# Altium integrated library Altium_WCAP-CSMH (rev20a).IntLib: 102 symbols (part 2 of 2)
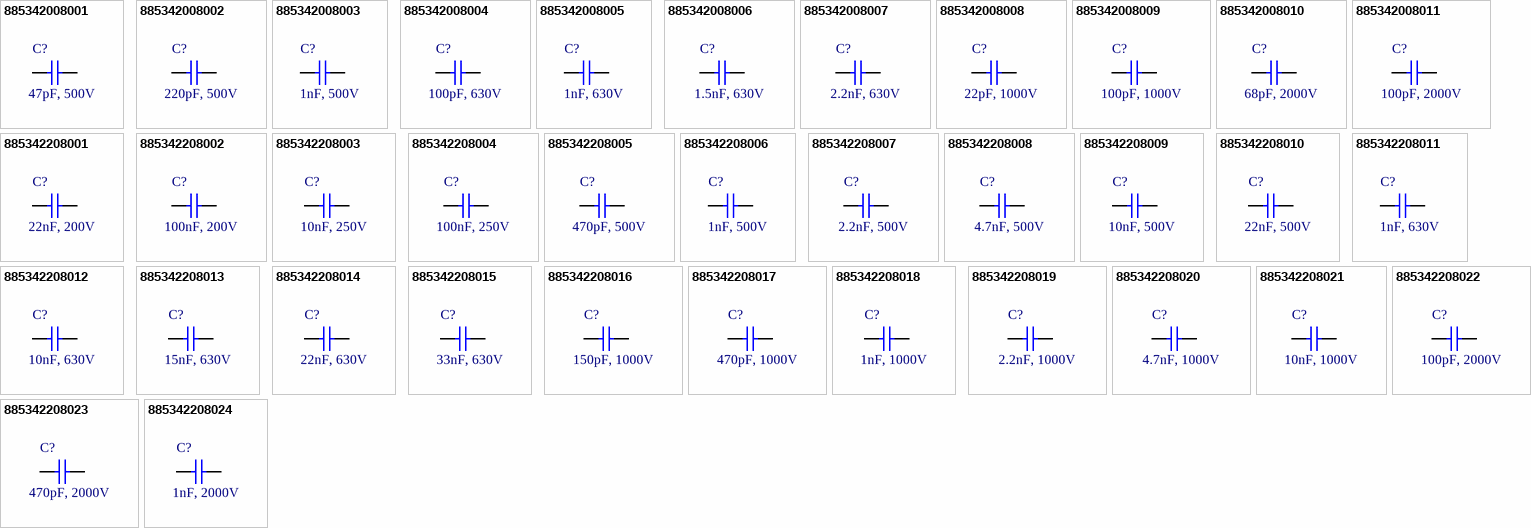
[diagram p6: symbols 885342008001 to 885342208024]

## 885342208017
designator C?, comment 470pF, 1000V
WCAP-CSMH Multilayer Ceramic Chip Capacitor, size 1206, X7R Class II, 470pF, 1000V; Manufacturer Part Number: 885342208017; Manufacturer: Wurth Elektronik; Rated Voltage: 1000VDC; Insulation Resistance: 10GOhm; Dissipation Factor: 2.5%; Capacitance Tolerance: +/-10%; Technical Reference: X7R1206471KA00DFCT10000; ComponentLink1Description: Manufacturer; ComponentLink1URL: http://www.we-online.de; ComponentLink2Description: Datasheet; ComponentLink2URL: https://www.we-online.com/catalog/datasheet/885342208017.pdf; Mounting Technology: SMT; Operating Temperature: -55 to +125degC; Published Date: May 2020; Packaging: Tape and Reel; Ceramic Type: X7R Class II; Capacitance: 470pF; Height: 1.25mm; Size: 1206
footprint WCAP-CSMH_1206_H1.25
pins: 1, 2

## 885342208018
designator C?, comment 1nF, 1000V
WCAP-CSMH Multilayer Ceramic Chip Capacitor, size 1206, X7R Class II, 1nF, 1000V; Manufacturer Part Number: 885342208018; Manufacturer: Wurth Elektronik; Rated Voltage: 1000VDC; Insulation Resistance: 10GOhm; Dissipation Factor: 2.5%; Capacitance Tolerance: +/-10%; Technical Reference: X7R1206102KA00DFCT10000; ComponentLink1Description: Manufacturer; ComponentLink1URL: http://www.we-online.de; ComponentLink2Description: Datasheet; ComponentLink2URL: https://www.we-online.com/catalog/datasheet/885342208018.pdf; Mounting Technology: SMT; Operating Temperature: -55 to +125degC; Published Date: May 2020; Packaging: Tape and Reel; Ceramic Type: X7R Class II; Capacitance: 1nF; Height: 1.25mm; Size: 1206
footprint WCAP-CSMH_1206_H1.25
pins: 1, 2

## 885342208019
designator C?, comment 2.2nF, 1000V
WCAP-CSMH Multilayer Ceramic Chip Capacitor, size 1206, X7R Class II, 2.2nF, 1000V; Manufacturer Part Number: 885342208019; Manufacturer: Wurth Elektronik; Rated Voltage: 1000VDC; Insulation Resistance: 10GOhm; Dissipation Factor: 2.5%; Capacitance Tolerance: +/-10%; Technical Reference: X7R1206222KA00DFCT10000; ComponentLink1Description: Manufacturer; ComponentLink1URL: http://www.we-online.de; ComponentLink2Description: Datasheet; ComponentLink2URL: https://www.we-online.com/catalog/datasheet/885342208019.pdf; Mounting Technology: SMT; Operating Temperature: -55 to +125degC; Published Date: May 2020; Packaging: Tape and Reel; Ceramic Type: X7R Class II; Capacitance: 2.2nF; Height: 1.25mm; Size: 1206
footprint WCAP-CSMH_1206_H1.25
pins: 1, 2

## 885342208020
designator C?, comment 4.7nF, 1000V
WCAP-CSMH Multilayer Ceramic Chip Capacitor, size 1206, X7R Class II, 4.7nF, 1000V; Manufacturer Part Number: 885342208020; Manufacturer: Wurth Elektronik; Rated Voltage: 1000VDC; Insulation Resistance: 10GOhm; Dissipation Factor: 2.5%; Capacitance Tolerance: +/-10%; Technical Reference: X7R1206472KA00DFCT10000; ComponentLink1Description: Manufacturer; ComponentLink1URL: http://www.we-online.de; ComponentLink2Description: Datasheet; ComponentLink2URL: https://www.we-online.com/catalog/datasheet/885342208020.pdf; Mounting Technology: SMT; Operating Temperature: -55 to +125degC; Published Date: May 2020; Packaging: Tape and Reel; Ceramic Type: X7R Class II; Capacitance: 4.7nF; Height: 1.25mm; Size: 1206
footprint WCAP-CSMH_1206_H1.25
pins: 1, 2

## 885342208021
designator C?, comment 10nF, 1000V
WCAP-CSMH Multilayer Ceramic Chip Capacitor, size 1206, X7R Class II, 10nF, 1000V; Manufacturer Part Number: 885342208021; Manufacturer: Wurth Elektronik; Rated Voltage: 1000VDC; Insulation Resistance: 10GOhm; Dissipation Factor: 2.5%; Capacitance Tolerance: +/-10%; Technical Reference: X7R1206103KA00DFCT10000; ComponentLink1Description: Manufacturer; ComponentLink1URL: http://www.we-online.de; ComponentLink2Description: Datasheet; ComponentLink2URL: https://www.we-online.com/catalog/datasheet/885342208021.pdf; Mounting Technology: SMT; Operating Temperature: -55 to +125degC; Published Date: May 2020; Packaging: Tape and Reel; Ceramic Type: X7R Class II; Capacitance: 10nF; Height: 1.25mm; Size: 1206
footprint WCAP-CSMH_1206_H1.25
pins: 1, 2

## 885342208022
designator C?, comment 100pF, 2000V
WCAP-CSMH Multilayer Ceramic Chip Capacitor, size 1206, X7R Class II, 100pF, 2000V; Manufacturer Part Number: 885342208022; Manufacturer: Wurth Elektronik; Rated Voltage: 2000VDC; Insulation Resistance: 10GOhm; Dissipation Factor: 2.5%; Capacitance Tolerance: +/-10%; Technical Reference: X7R1206101KB00DFCT10000; ComponentLink1Description: Manufacturer; ComponentLink1URL: http://www.we-online.de; ComponentLink2Description: Datasheet; ComponentLink2URL: https://www.we-online.com/catalog/datasheet/885342208022.pdf; Mounting Technology: SMT; Operating Temperature: -55 to +125degC; Published Date: May 2020; Packaging: Tape and Reel; Ceramic Type: X7R Class II; Capacitance: 100pF; Height: 1.25mm; Size: 1206
footprint WCAP-CSMH_1206_H1.25
pins: 1, 2

## 885342208023
designator C?, comment 470pF, 2000V
WCAP-CSMH Multilayer Ceramic Chip Capacitor, size 1206, X7R Class II, 470pF, 2000V; Manufacturer Part Number: 885342208023; Manufacturer: Wurth Elektronik; Rated Voltage: 2000VDC; Insulation Resistance: 10GOhm; Dissipation Factor: 2.5%; Capacitance Tolerance: +/-10%; Technical Reference: X7R1206471KB00DFCT10000; ComponentLink1Description: Manufacturer; ComponentLink1URL: http://www.we-online.de; ComponentLink2Description: Datasheet; ComponentLink2URL: https://www.we-online.com/catalog/datasheet/885342208023.pdf; Mounting Technology: SMT; Operating Temperature: -55 to +125degC; Published Date: May 2020; Packaging: Tape and Reel; Ceramic Type: X7R Class II; Capacitance: 470pF; Height: 1.25mm; Size: 1206
footprint WCAP-CSMH_1206_H1.25
pins: 1, 2

## 885342208024
designator C?, comment 1nF, 2000V
WCAP-CSMH Multilayer Ceramic Chip Capacitor, size 1206, X7R Class II, 1nF, 2000V; Manufacturer Part Number: 885342208024; Manufacturer: Wurth Elektronik; Rated Voltage: 2000VDC; Insulation Resistance: 10GOhm; Dissipation Factor: 2.5%; Capacitance Tolerance: +/-10%; Technical Reference: X7R1206102KB00DFCT10000; ComponentLink1Description: Manufacturer; ComponentLink1URL: http://www.we-online.de; ComponentLink2Description: Datasheet; ComponentLink2URL: https://www.we-online.com/catalog/datasheet/885342208024.pdf; Mounting Technology: SMT; Operating Temperature: -55 to +125degC; Published Date: May 2020; Packaging: Tape and Reel; Ceramic Type: X7R Class II; Capacitance: 1nF; Height: 1.6mm; Size: 1206
footprint WCAP-CSMH_1206_H1.6
pins: 1, 2


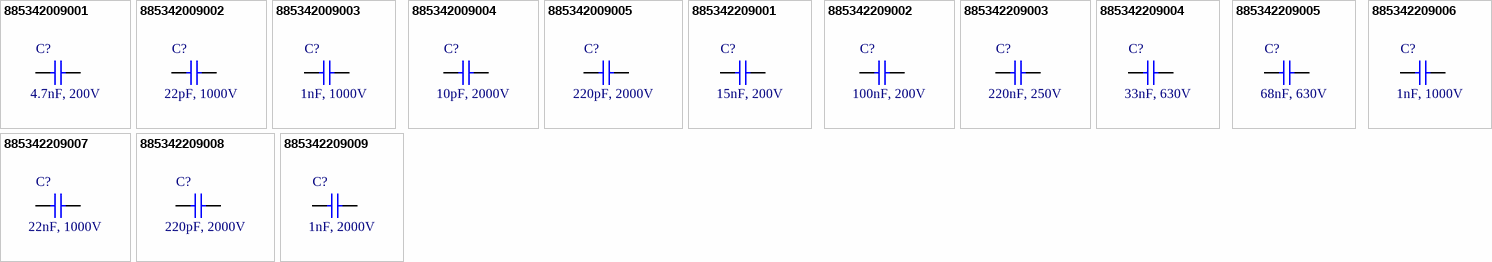
[diagram p3: symbols 885342009001 to 885342209009]

## 885342009001
designator C?, comment 4.7nF, 200V
WCAP-CSMH Multilayer Ceramic Chip Capacitor, size 1210, NP0 Class I, 4.7nF, 200V; Manufacturer Part Number: 885342009001; Manufacturer: Wurth Elektronik; Rated Voltage: 200VDC; Insulation Resistance: 10GOhm; Capacitance Tolerance: +/-5%; Technical Reference: NP01210472J200DFCT10000; ComponentLink1Description: Manufacturer; ComponentLink1URL: http://www.we-online.de; ComponentLink2Description: Datasheet; ComponentLink2URL: https://www.we-online.com/catalog/datasheet/885342009001.pdf; Mounting Technology: SMT; Operating Temperature: -55 to +125degC; Published Date: May 2020; Packaging: Tape and Reel; Ceramic Type: NP0 Class I; Capacitance: 4.7nF; Dissipation Factor: -; Height: 1.6mm; Size: 1210
footprint WCAP-CSMH_1210_H1.6
pins: 1, 2

## 885342009002
designator C?, comment 22pF, 1000V
WCAP-CSMH Multilayer Ceramic Chip Capacitor, size 1210, NP0 Class I, 22pF, 1000V; Manufacturer Part Number: 885342009002; Manufacturer: Wurth Elektronik; Rated Voltage: 1000VDC; Insulation Resistance: 10GOhm; Capacitance Tolerance: +/-5%; Technical Reference: NP01210220JA00DFCT10000; ComponentLink1Description: Manufacturer; ComponentLink1URL: http://www.we-online.de; ComponentLink2Description: Datasheet; ComponentLink2URL: https://www.we-online.com/catalog/datasheet/885342009002.pdf; Mounting Technology: SMT; Operating Temperature: -55 to +125degC; Published Date: May 2020; Packaging: Tape and Reel; Ceramic Type: NP0 Class I; Capacitance: 22pF; Dissipation Factor: -; Height: 0.95mm; Size: 1210
footprint WCAP-CSMH_1210_H0.95
pins: 1, 2

## 885342009003
designator C?, comment 1nF, 1000V
WCAP-CSMH Multilayer Ceramic Chip Capacitor, size 1210, NP0 Class I, 1nF, 1000V; Manufacturer Part Number: 885342009003; Manufacturer: Wurth Elektronik; Rated Voltage: 1000VDC; Insulation Resistance: 10GOhm; Capacitance Tolerance: +/-5%; Technical Reference: NP01210102JA00DFCT10000; ComponentLink1Description: Manufacturer; ComponentLink1URL: http://www.we-online.de; ComponentLink2Description: Datasheet; ComponentLink2URL: https://www.we-online.com/catalog/datasheet/885342009003.pdf; Mounting Technology: SMT; Operating Temperature: -55 to +125degC; Published Date: May 2020; Packaging: Tape and Reel; Ceramic Type: NP0 Class I; Capacitance: 1nF; Dissipation Factor: -; Height: 1.6mm; Size: 1210
footprint WCAP-CSMH_1210_H1.6
pins: 1, 2

## 885342009004
designator C?, comment 10pF, 2000V
WCAP-CSMH Multilayer Ceramic Chip Capacitor, size 1210, NP0 Class I, 10pF, 2000V; Manufacturer Part Number: 885342009004; Manufacturer: Wurth Elektronik; Rated Voltage: 2000VDC; Insulation Resistance: 10GOhm; Capacitance Tolerance: +/-5%; Technical Reference: NP01210100JB00DFCT10000; ComponentLink1Description: Manufacturer; ComponentLink1URL: http://www.we-online.de; ComponentLink2Description: Datasheet; ComponentLink2URL: https://www.we-online.com/catalog/datasheet/885342009004.pdf; Mounting Technology: SMT; Operating Temperature: -55 to +125degC; Published Date: May 2020; Packaging: Tape and Reel; Ceramic Type: NP0 Class I; Capacitance: 10pF; Dissipation Factor: -; Height: 0.95mm; Size: 1210
footprint WCAP-CSMH_1210_H0.95
pins: 1, 2

## 885342009005
designator C?, comment 220pF, 2000V
WCAP-CSMH Multilayer Ceramic Chip Capacitor, size 1210, NP0 Class I, 220pF, 2000V; Manufacturer Part Number: 885342009005; Manufacturer: Wurth Elektronik; Rated Voltage: 2000VDC; Insulation Resistance: 10GOhm; Capacitance Tolerance: +/-5%; Technical Reference: NP01210221JB00DFCT10000; ComponentLink1Description: Manufacturer; ComponentLink1URL: http://www.we-online.de; ComponentLink2Description: Datasheet; ComponentLink2URL: https://www.we-online.com/catalog/datasheet/885342009005.pdf; Mounting Technology: SMT; Operating Temperature: -55 to +125degC; Published Date: May 2020; Packaging: Tape and Reel; Ceramic Type: NP0 Class I; Capacitance: 220pF; Dissipation Factor: -; Height: 1.6mm; Size: 1210
footprint WCAP-CSMH_1210_H1.6
pins: 1, 2

## 885342209001
designator C?, comment 15nF, 200V
WCAP-CSMH Multilayer Ceramic Chip Capacitor, size 1210, X7R Class II, 15nF, 200V; Manufacturer Part Number: 885342209001; Manufacturer: Wurth Elektronik; Rated Voltage: 200VDC; Insulation Resistance: 6.667GOhm; Dissipation Factor: 2.5%; Capacitance Tolerance: +/-10%; Technical Reference: X7R1210153K200DFCT10000; ComponentLink1Description: Manufacturer; ComponentLink1URL: http://www.we-online.de; ComponentLink2Description: Datasheet; ComponentLink2URL: https://www.we-online.com/catalog/datasheet/885342209001.pdf; Mounting Technology: SMT; Operating Temperature: -55 to +125degC; Published Date: May 2020; Packaging: Tape and Reel; Ceramic Type: X7R Class II; Capacitance: 15nF; Height: 0.95mm; Size: 1210
footprint WCAP-CSMH_1210_H0.95
pins: 1, 2

## 885342209002
designator C?, comment 100nF, 200V
WCAP-CSMH Multilayer Ceramic Chip Capacitor, size 1210, X7R Class II, 100nF, 200V; Manufacturer Part Number: 885342209002; Manufacturer: Wurth Elektronik; Rated Voltage: 200VDC; Insulation Resistance: 1GOhm; Dissipation Factor: 2.5%; Capacitance Tolerance: +/-10%; Technical Reference: X7R1210104K200DFCT10000; ComponentLink1Description: Manufacturer; ComponentLink1URL: http://www.we-online.de; ComponentLink2Description: Datasheet; ComponentLink2URL: https://www.we-online.com/catalog/datasheet/885342209002.pdf; Mounting Technology: SMT; Operating Temperature: -55 to +125degC; Published Date: May 2020; Packaging: Tape and Reel; Ceramic Type: X7R Class II; Capacitance: 100nF; Height: 1.6mm; Size: 1210
footprint WCAP-CSMH_1210_H1.6
pins: 1, 2

## 885342209003
designator C?, comment 220nF, 250V
WCAP-CSMH Multilayer Ceramic Chip Capacitor, size 1210, X7R Class II, 220nF, 250V; Manufacturer Part Number: 885342209003; Manufacturer: Wurth Elektronik; Rated Voltage: 250VDC; Insulation Resistance: 0.455GOhm; Dissipation Factor: 2.5%; Capacitance Tolerance: +/-10%; Technical Reference: X7R1210224K250DFCT10000; ComponentLink1Description: Manufacturer; ComponentLink1URL: http://www.we-online.de; ComponentLink2Description: Datasheet; ComponentLink2URL: https://www.we-online.com/catalog/datasheet/885342209003.pdf; Mounting Technology: SMT; Operating Temperature: -55 to +125degC; Published Date: May 2020; Packaging: Tape and Reel; Ceramic Type: X7R Class II; Capacitance: 220nF; Height: 2.5mm; Size: 1210
footprint WCAP-CSMH_1210_H2.5
pins: 1, 2

## 885342209004
designator C?, comment 33nF, 630V
WCAP-CSMH Multilayer Ceramic Chip Capacitor, size 1210, X7R Class II, 33nF, 630V; Manufacturer Part Number: 885342209004; Manufacturer: Wurth Elektronik; Rated Voltage: 630VDC; Insulation Resistance: 3.03GOhm; Dissipation Factor: 2.5%; Capacitance Tolerance: +/-10%; Technical Reference: X7R1210333K630DFCT10000; ComponentLink1Description: Manufacturer; ComponentLink1URL: http://www.we-online.de; ComponentLink2Description: Datasheet; ComponentLink2URL: https://www.we-online.com/catalog/datasheet/885342209004.pdf; Mounting Technology: SMT; Operating Temperature: -55 to +125degC; Published Date: May 2020; Packaging: Tape and Reel; Ceramic Type: X7R Class II; Capacitance: 33nF; Height: 1.6mm; Size: 1210
footprint WCAP-CSMH_1210_H1.6
pins: 1, 2

## 885342209005
designator C?, comment 68nF, 630V
WCAP-CSMH Multilayer Ceramic Chip Capacitor, size 1210, X7R Class II, 68nF, 630V; Manufacturer Part Number: 885342209005; Manufacturer: Wurth Elektronik; Rated Voltage: 630VDC; Insulation Resistance: 1.471GOhm; Dissipation Factor: 2.5%; Capacitance Tolerance: +/-10%; Technical Reference: X7R1210683K630DFCT10000; ComponentLink1Description: Manufacturer; ComponentLink1URL: http://www.we-online.de; ComponentLink2Description: Datasheet; ComponentLink2URL: https://www.we-online.com/catalog/datasheet/885342209005.pdf; Mounting Technology: SMT; Operating Temperature: -55 to +125degC; Published Date: May 2020; Packaging: Tape and Reel; Ceramic Type: X7R Class II; Capacitance: 68nF; Height: 2mm; Size: 1210
footprint WCAP-CSMH_1210_H2
pins: 1, 2

## 885342209006
designator C?, comment 1nF, 1000V
WCAP-CSMH Multilayer Ceramic Chip Capacitor, size 1210, X7R Class II, 1nF, 1000V; Manufacturer Part Number: 885342209006; Manufacturer: Wurth Elektronik; Rated Voltage: 1000VDC; Insulation Resistance: 10GOhm; Dissipation Factor: 2.5%; Capacitance Tolerance: +/-10%; Technical Reference: X7R1210102KA00DFCT10000; ComponentLink1Description: Manufacturer; ComponentLink1URL: http://www.we-online.de; ComponentLink2Description: Datasheet; ComponentLink2URL: https://www.we-online.com/catalog/datasheet/885342209006.pdf; Mounting Technology: SMT; Operating Temperature: -55 to +125degC; Published Date: May 2020; Packaging: Tape and Reel; Ceramic Type: X7R Class II; Capacitance: 1nF; Height: 1.25mm; Size: 1210
footprint WCAP-CSMH_1210_H1.25
pins: 1, 2

## 885342209007
designator C?, comment 22nF, 1000V
WCAP-CSMH Multilayer Ceramic Chip Capacitor, size 1210, X7R Class II, 22nF, 1000V; Manufacturer Part Number: 885342209007; Manufacturer: Wurth Elektronik; Rated Voltage: 1000VDC; Insulation Resistance: 4.55GOhm; Dissipation Factor: 2.5%; Capacitance Tolerance: +/-10%; Technical Reference: X7R1210223KA00DFCT10000; ComponentLink1Description: Manufacturer; ComponentLink1URL: http://www.we-online.de; ComponentLink2Description: Datasheet; ComponentLink2URL: https://www.we-online.com/catalog/datasheet/885342209007.pdf; Mounting Technology: SMT; Operating Temperature: -55 to +125degC; Published Date: May 2020; Packaging: Tape and Reel; Ceramic Type: X7R Class II; Capacitance: 22nF; Height: 1.6mm; Size: 1210
footprint WCAP-CSMH_1210_H1.6
pins: 1, 2

## 885342209008
designator C?, comment 220pF, 2000V
WCAP-CSMH Multilayer Ceramic Chip Capacitor, size 1210, X7R Class II, 220pF, 2000V; Manufacturer Part Number: 885342209008; Manufacturer: Wurth Elektronik; Rated Voltage: 2000VDC; Insulation Resistance: 10GOhm; Dissipation Factor: 2.5%; Capacitance Tolerance: +/-10%; Technical Reference: X7R1210221KB00DFCT10000; ComponentLink1Description: Manufacturer; ComponentLink1URL: http://www.we-online.de; ComponentLink2Description: Datasheet; ComponentLink2URL: https://www.we-online.com/catalog/datasheet/885342209008.pdf; Mounting Technology: SMT; Operating Temperature: -55 to +125degC; Published Date: May 2020; Packaging: Tape and Reel; Ceramic Type: X7R Class II; Capacitance: 220pF; Height: 1.25mm; Size: 1210
footprint WCAP-CSMH_1210_H1.25
pins: 1, 2

## 885342209009
designator C?, comment 1nF, 2000V
WCAP-CSMH Multilayer Ceramic Chip Capacitor, size 1210, X7R Class II, 1nF, 2000V; Manufacturer Part Number: 885342209009; Manufacturer: Wurth Elektronik; Rated Voltage: 2000VDC; Insulation Resistance: 10GOhm; Dissipation Factor: 2.5%; Capacitance Tolerance: +/-10%; Technical Reference: X7R1210102KB00DFCT10000; ComponentLink1Description: Manufacturer; ComponentLink1URL: http://www.we-online.de; ComponentLink2Description: Datasheet; ComponentLink2URL: https://www.we-online.com/catalog/datasheet/885342209009.pdf; Mounting Technology: SMT; Operating Temperature: -55 to +125degC; Published Date: May 2020; Packaging: Tape and Reel; Ceramic Type: X7R Class II; Capacitance: 1nF; Height: 1.25mm; Size: 1210
footprint WCAP-CSMH_1210_H1.25
pins: 1, 2


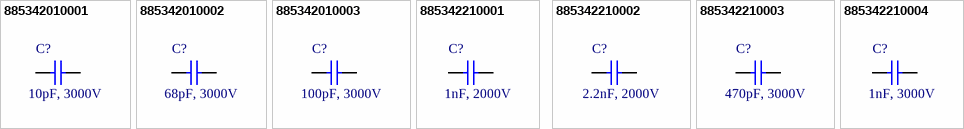
[diagram p4: symbols 885342010001 to 885342210004]

## 885342010001
designator C?, comment 10pF, 3000V
WCAP-CSMH Multilayer Ceramic Chip Capacitor, size 1808, NP0 Class I, 10pF, 3000V; Manufacturer Part Number: 885342010001; Manufacturer: Wurth Elektronik; Rated Voltage: 3000VDC; Insulation Resistance: 10GOhm; Capacitance Tolerance: +/-5%; Technical Reference: NP01808100JC00DFCT10000; ComponentLink1Description: Manufacturer; ComponentLink1URL: http://www.we-online.de; ComponentLink2Description: Datasheet; ComponentLink2URL: https://www.we-online.com/catalog/datasheet/885342010001.pdf; Mounting Technology: SMT; Operating Temperature: -55 to +125degC; Published Date: May 2020; Packaging: Tape and Reel; Ceramic Type: NP0 Class I; Capacitance: 10pF; Dissipation Factor: -; Height: 1.25mm; Size: 1808
footprint WCAP-CSMH_1808_H1.25
pins: 1, 2

## 885342010002
designator C?, comment 68pF, 3000V
WCAP-CSMH Multilayer Ceramic Chip Capacitor, size 1808, NP0 Class I, 68pF, 3000V; Manufacturer Part Number: 885342010002; Manufacturer: Wurth Elektronik; Rated Voltage: 3000VDC; Insulation Resistance: 10GOhm; Capacitance Tolerance: +/-5%; Technical Reference: NP01808680JC00DFCT10000; ComponentLink1Description: Manufacturer; ComponentLink1URL: http://www.we-online.de; ComponentLink2Description: Datasheet; ComponentLink2URL: https://www.we-online.com/catalog/datasheet/885342010002.pdf; Mounting Technology: SMT; Operating Temperature: -55 to +125degC; Published Date: May 2020; Packaging: Tape and Reel; Ceramic Type: NP0 Class I; Capacitance: 68pF; Dissipation Factor: -; Height: 1.25mm; Size: 1808
footprint WCAP-CSMH_1808_H1.25
pins: 1, 2

## 885342010003
designator C?, comment 100pF, 3000V
WCAP-CSMH Multilayer Ceramic Chip Capacitor, size 1808, NP0 Class I, 100pF, 3000V; Manufacturer Part Number: 885342010003; Manufacturer: Wurth Elektronik; Rated Voltage: 3000VDC; Insulation Resistance: 10GOhm; Capacitance Tolerance: +/-5%; Technical Reference: NP01808101JC00DFCT10000; ComponentLink1Description: Manufacturer; ComponentLink1URL: http://www.we-online.de; ComponentLink2Description: Datasheet; ComponentLink2URL: https://www.we-online.com/catalog/datasheet/885342010003.pdf; Mounting Technology: SMT; Operating Temperature: -55 to +125degC; Published Date: May 2020; Packaging: Tape and Reel; Ceramic Type: NP0 Class I; Capacitance: 100pF; Dissipation Factor: -; Height: 2mm; Size: 1808
footprint WCAP-CSMH_1808_H2
pins: 1, 2

## 885342210001
designator C?, comment 1nF, 2000V
WCAP-CSMH Multilayer Ceramic Chip Capacitor, size 1808, X7R Class II, 1nF, 2000V; Manufacturer Part Number: 885342210001; Manufacturer: Wurth Elektronik; Rated Voltage: 2000VDC; Insulation Resistance: 10GOhm; Dissipation Factor: 2.5%; Capacitance Tolerance: +/-10%; Technical Reference: X7R1808102KB00DFCT10000; ComponentLink1Description: Manufacturer; ComponentLink1URL: http://www.we-online.de; ComponentLink2Description: Datasheet; ComponentLink2URL: https://www.we-online.com/catalog/datasheet/885342210001.pdf; Mounting Technology: SMT; Operating Temperature: -55 to +125degC; Published Date: May 2020; Packaging: Tape and Reel; Ceramic Type: X7R Class II; Capacitance: 1nF; Height: 1.25mm; Size: 1808
footprint WCAP-CSMH_1808_H1.25
pins: 1, 2

## 885342210002
designator C?, comment 2.2nF, 2000V
WCAP-CSMH Multilayer Ceramic Chip Capacitor, size 1808, X7R Class II, 2.2nF, 2000V; Manufacturer Part Number: 885342210002; Manufacturer: Wurth Elektronik; Rated Voltage: 2000VDC; Insulation Resistance: 10GOhm; Dissipation Factor: 2.5%; Capacitance Tolerance: +/-10%; Technical Reference: X7R1808222KB00DFCT10000; ComponentLink1Description: Manufacturer; ComponentLink1URL: http://www.we-online.de; ComponentLink2Description: Datasheet; ComponentLink2URL: https://www.we-online.com/catalog/datasheet/885342210002.pdf; Mounting Technology: SMT; Operating Temperature: -55 to +125degC; Published Date: May 2020; Packaging: Tape and Reel; Ceramic Type: X7R Class II; Capacitance: 2.2nF; Height: 2mm; Size: 1808
footprint WCAP-CSMH_1808_H2
pins: 1, 2

## 885342210003
designator C?, comment 470pF, 3000V
WCAP-CSMH Multilayer Ceramic Chip Capacitor, size 1808, X7R Class II, 470pF, 3000V; Manufacturer Part Number: 885342210003; Manufacturer: Wurth Elektronik; Rated Voltage: 3000VDC; Insulation Resistance: 10GOhm; Dissipation Factor: 2.5%; Capacitance Tolerance: +/-10%; Technical Reference: X7R1808471KC00DFCT10000; ComponentLink1Description: Manufacturer; ComponentLink1URL: http://www.we-online.de; ComponentLink2Description: Datasheet; ComponentLink2URL: https://www.we-online.com/catalog/datasheet/885342210003.pdf; Mounting Technology: SMT; Operating Temperature: -55 to +125degC; Published Date: May 2020; Packaging: Tape and Reel; Ceramic Type: X7R Class II; Capacitance: 470pF; Height: 2mm; Size: 1808
footprint WCAP-CSMH_1808_H2
pins: 1, 2

## 885342210004
designator C?, comment 1nF, 3000V
WCAP-CSMH Multilayer Ceramic Chip Capacitor, size 1808, X7R Class II, 1nF, 3000V; Manufacturer Part Number: 885342210004; Manufacturer: Wurth Elektronik; Rated Voltage: 3000VDC; Insulation Resistance: 10GOhm; Dissipation Factor: 2.5%; Capacitance Tolerance: +/-10%; Technical Reference: X7R1808102KC00DFCT10000; ComponentLink1Description: Manufacturer; ComponentLink1URL: http://www.we-online.de; ComponentLink2Description: Datasheet; ComponentLink2URL: https://www.we-online.com/catalog/datasheet/885342210004.pdf; Mounting Technology: SMT; Operating Temperature: -55 to +125degC; Published Date: May 2020; Packaging: Tape and Reel; Ceramic Type: X7R Class II; Capacitance: 1nF; Height: 2mm; Size: 1808
footprint WCAP-CSMH_1808_H2
pins: 1, 2


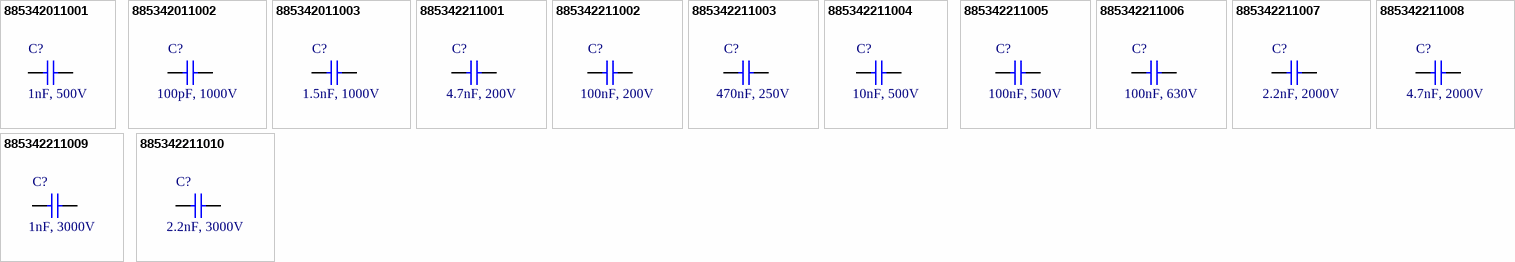
[diagram p5: symbols 885342011001 to 885342211010]

## 885342011001
designator C?, comment 1nF, 500V
WCAP-CSMH Multilayer Ceramic Chip Capacitor, size 1812, NP0 Class I, 1nF, 500V; Manufacturer Part Number: 885342011001; Manufacturer: Wurth Elektronik; Rated Voltage: 500VDC; Insulation Resistance: 10GOhm; Capacitance Tolerance: +/-5%; Technical Reference: NP01812102J500DFCT10000; ComponentLink1Description: Manufacturer; ComponentLink1URL: http://www.we-online.de; ComponentLink2Description: Datasheet; ComponentLink2URL: https://www.we-online.com/catalog/datasheet/885342011001.pdf; Mounting Technology: SMT; Operating Temperature: -55 to +125degC; Published Date: May 2020; Packaging: Tape and Reel; Ceramic Type: NP0 Class I; Capacitance: 1nF; Dissipation Factor: -; Height: 1.25mm; Size: 1812
footprint WCAP-CSMH_1812_H1.25
pins: 1, 2

## 885342011002
designator C?, comment 100pF, 1000V
WCAP-CSMH Multilayer Ceramic Chip Capacitor, size 1812, NP0 Class I, 100pF, 1000V; Manufacturer Part Number: 885342011002; Manufacturer: Wurth Elektronik; Rated Voltage: 1000VDC; Insulation Resistance: 10GOhm; Capacitance Tolerance: +/-5%; Technical Reference: NP01812101JA00DFCT10000; ComponentLink1Description: Manufacturer; ComponentLink1URL: http://www.we-online.de; ComponentLink2Description: Datasheet; ComponentLink2URL: https://www.we-online.com/catalog/datasheet/885342011002.pdf; Mounting Technology: SMT; Operating Temperature: -55 to +125degC; Published Date: May 2020; Packaging: Tape and Reel; Ceramic Type: NP0 Class I; Capacitance: 100pF; Dissipation Factor: -; Height: 1.25mm; Size: 1812
footprint WCAP-CSMH_1812_H1.25
pins: 1, 2

## 885342011003
designator C?, comment 1.5nF, 1000V
WCAP-CSMH Multilayer Ceramic Chip Capacitor, size 1812, NP0 Class I, 1.5nF, 1000V; Manufacturer Part Number: 885342011003; Manufacturer: Wurth Elektronik; Rated Voltage: 1000VDC; Insulation Resistance: 10GOhm; Capacitance Tolerance: +/-5%; Technical Reference: NP01812152JA00DFCT10000; ComponentLink1Description: Manufacturer; ComponentLink1URL: http://www.we-online.de; ComponentLink2Description: Datasheet; ComponentLink2URL: https://www.we-online.com/catalog/datasheet/885342011003.pdf; Mounting Technology: SMT; Operating Temperature: -55 to +125degC; Published Date: May 2020; Packaging: Tape and Reel; Ceramic Type: NP0 Class I; Capacitance: 1.5nF; Dissipation Factor: -; Height: 2mm; Size: 1812
footprint WCAP-CSMH_1812_H2
pins: 1, 2

## 885342211001
designator C?, comment 4.7nF, 200V
WCAP-CSMH Multilayer Ceramic Chip Capacitor, size 1812, X7R Class II, 4.7nF, 200V; Manufacturer Part Number: 885342211001; Manufacturer: Wurth Elektronik; Rated Voltage: 200VDC; Insulation Resistance: 10GOhm; Dissipation Factor: 2.5%; Capacitance Tolerance: +/-10%; Technical Reference: X7R1812472K200DFCT10000; ComponentLink1Description: Manufacturer; ComponentLink1URL: http://www.we-online.de; ComponentLink2Description: Datasheet; ComponentLink2URL: https://www.we-online.com/catalog/datasheet/885342211001.pdf; Mounting Technology: SMT; Operating Temperature: -55 to +125degC; Published Date: May 2020; Packaging: Tape and Reel; Ceramic Type: X7R Class II; Capacitance: 4.7nF; Height: 1.25mm; Size: 1812
footprint WCAP-CSMH_1812_H1.25
pins: 1, 2

## 885342211002
designator C?, comment 100nF, 200V
WCAP-CSMH Multilayer Ceramic Chip Capacitor, size 1812, X7R Class II, 100nF, 200V; Manufacturer Part Number: 885342211002; Manufacturer: Wurth Elektronik; Rated Voltage: 200VDC; Insulation Resistance: 1GOhm; Dissipation Factor: 2.5%; Capacitance Tolerance: +/-10%; Technical Reference: X7R1812104K200DFCT10000; ComponentLink1Description: Manufacturer; ComponentLink1URL: http://www.we-online.de; ComponentLink2Description: Datasheet; ComponentLink2URL: https://www.we-online.com/catalog/datasheet/885342211002.pdf; Mounting Technology: SMT; Operating Temperature: -55 to +125degC; Published Date: May 2020; Packaging: Tape and Reel; Ceramic Type: X7R Class II; Capacitance: 100nF; Height: 1.25mm; Size: 1812
footprint WCAP-CSMH_1812_H1.25
pins: 1, 2

## 885342211003
designator C?, comment 470nF, 250V
WCAP-CSMH Multilayer Ceramic Chip Capacitor, size 1812, X7R Class II, 470nF, 250V; Manufacturer Part Number: 885342211003; Manufacturer: Wurth Elektronik; Rated Voltage: 250VDC; Insulation Resistance: 0.213GOhm; Dissipation Factor: 2.5%; Capacitance Tolerance: +/-10%; Technical Reference: X7R1812474K250DFCT10000; ComponentLink1Description: Manufacturer; ComponentLink1URL: http://www.we-online.de; ComponentLink2Description: Datasheet; ComponentLink2URL: https://www.we-online.com/catalog/datasheet/885342211003.pdf; Mounting Technology: SMT; Operating Temperature: -55 to +125degC; Published Date: May 2020; Packaging: Tape and Reel; Ceramic Type: X7R Class II; Capacitance: 470nF; Height: 2.5mm; Size: 1812
footprint WCAP-CSMH_1812_H2.5
pins: 1, 2

## 885342211004
designator C?, comment 10nF, 500V
WCAP-CSMH Multilayer Ceramic Chip Capacitor, size 1812, X7R Class II, 10nF, 500V; Manufacturer Part Number: 885342211004; Manufacturer: Wurth Elektronik; Rated Voltage: 500VDC; Insulation Resistance: 10GOhm; Dissipation Factor: 2.5%; Capacitance Tolerance: +/-10%; Technical Reference: X7R1812103K500DFCT10000; ComponentLink1Description: Manufacturer; ComponentLink1URL: http://www.we-online.de; ComponentLink2Description: Datasheet; ComponentLink2URL: https://www.we-online.com/catalog/datasheet/885342211004.pdf; Mounting Technology: SMT; Operating Temperature: -55 to +125degC; Published Date: May 2020; Packaging: Tape and Reel; Ceramic Type: X7R Class II; Capacitance: 10nF; Height: 1.25mm; Size: 1812
footprint WCAP-CSMH_1812_H1.25
pins: 1, 2

## 885342211005
designator C?, comment 100nF, 500V
WCAP-CSMH Multilayer Ceramic Chip Capacitor, size 1812, X7R Class II, 100nF, 500V; Manufacturer Part Number: 885342211005; Manufacturer: Wurth Elektronik; Rated Voltage: 500VDC; Insulation Resistance: 1GOhm; Dissipation Factor: 2.5%; Capacitance Tolerance: +/-10%; Technical Reference: X7R1812104K500DFCT10000; ComponentLink1Description: Manufacturer; ComponentLink1URL: http://www.we-online.de; ComponentLink2Description: Datasheet; ComponentLink2URL: https://www.we-online.com/catalog/datasheet/885342211005.pdf; Mounting Technology: SMT; Operating Temperature: -55 to +125degC; Published Date: May 2020; Packaging: Tape and Reel; Ceramic Type: X7R Class II; Capacitance: 100nF; Height: 2mm; Size: 1812
footprint WCAP-CSMH_1812_H2
pins: 1, 2

## 885342211006
designator C?, comment 100nF, 630V
WCAP-CSMH Multilayer Ceramic Chip Capacitor, size 1812, X7R Class II, 100nF, 630V; Manufacturer Part Number: 885342211006; Manufacturer: Wurth Elektronik; Rated Voltage: 630VDC; Insulation Resistance: 1GOhm; Dissipation Factor: 2.5%; Capacitance Tolerance: +/-10%; Technical Reference: X7R1812104K630DFCT10000; ComponentLink1Description: Manufacturer; ComponentLink1URL: http://www.we-online.de; ComponentLink2Description: Datasheet; ComponentLink2URL: https://www.we-online.com/catalog/datasheet/885342211006.pdf; Mounting Technology: SMT; Operating Temperature: -55 to +125degC; Published Date: May 2020; Packaging: Tape and Reel; Ceramic Type: X7R Class II; Capacitance: 100nF; Height: 2mm; Size: 1812
footprint WCAP-CSMH_1812_H2
pins: 1, 2

## 885342211007
designator C?, comment 2.2nF, 2000V
WCAP-CSMH Multilayer Ceramic Chip Capacitor, size 1812, X7R Class II, 2.2nF, 2000V; Manufacturer Part Number: 885342211007; Manufacturer: Wurth Elektronik; Rated Voltage: 2000VDC; Insulation Resistance: 10GOhm; Dissipation Factor: 2.5%; Capacitance Tolerance: +/-10%; Technical Reference: X7R1812222KB00DFCT10000; ComponentLink1Description: Manufacturer; ComponentLink1URL: http://www.we-online.de; ComponentLink2Description: Datasheet; ComponentLink2URL: https://www.we-online.com/catalog/datasheet/885342211007.pdf; Mounting Technology: SMT; Operating Temperature: -55 to +125degC; Published Date: May 2020; Packaging: Tape and Reel; Ceramic Type: X7R Class II; Capacitance: 2.2nF; Height: 1.6mm; Size: 1812
footprint WCAP-CSMH_1812_H1.6
pins: 1, 2

## 885342211008
designator C?, comment 4.7nF, 2000V
WCAP-CSMH Multilayer Ceramic Chip Capacitor, size 1812, X7R Class II, 4.7nF, 2000V; Manufacturer Part Number: 885342211008; Manufacturer: Wurth Elektronik; Rated Voltage: 2000VDC; Insulation Resistance: 10GOhm; Dissipation Factor: 2.5%; Capacitance Tolerance: +/-10%; Technical Reference: X7R1812472KB00DFCT10000; ComponentLink1Description: Manufacturer; ComponentLink1URL: http://www.we-online.de; ComponentLink2Description: Datasheet; ComponentLink2URL: https://www.we-online.com/catalog/datasheet/885342211008.pdf; Mounting Technology: SMT; Operating Temperature: -55 to +125degC; Published Date: May 2020; Packaging: Tape and Reel; Ceramic Type: X7R Class II; Capacitance: 4.7nF; Height: 2mm; Size: 1812
footprint WCAP-CSMH_1812_H2
pins: 1, 2

## 885342211009
designator C?, comment 1nF, 3000V
WCAP-CSMH Multilayer Ceramic Chip Capacitor, size 1812, X7R Class II, 1nF, 3000V; Manufacturer Part Number: 885342211009; Manufacturer: Wurth Elektronik; Rated Voltage: 3000VDC; Insulation Resistance: 10GOhm; Dissipation Factor: 2.5%; Capacitance Tolerance: +/-10%; Technical Reference: X7R1812102KC00DFCT10000; ComponentLink1Description: Manufacturer; ComponentLink1URL: http://www.we-online.de; ComponentLink2Description: Datasheet; ComponentLink2URL: https://www.we-online.com/catalog/datasheet/885342211009.pdf; Mounting Technology: SMT; Operating Temperature: -55 to +125degC; Published Date: May 2020; Packaging: Tape and Reel; Ceramic Type: X7R Class II; Capacitance: 1nF; Height: 2mm; Size: 1812
footprint WCAP-CSMH_1812_H2
pins: 1, 2

## 885342211010
designator C?, comment 2.2nF, 3000V
WCAP-CSMH Multilayer Ceramic Chip Capacitor, size 1812, X7R Class II, 2.2nF, 3000V; Manufacturer Part Number: 885342211010; Manufacturer: Wurth Elektronik; Rated Voltage: 3000VDC; Insulation Resistance: 10GOhm; Dissipation Factor: 2.5%; Capacitance Tolerance: +/-10%; Technical Reference: X7R1812222KC00DFCT10000; ComponentLink1Description: Manufacturer; ComponentLink1URL: http://www.we-online.de; ComponentLink2Description: Datasheet; ComponentLink2URL: https://www.we-online.com/catalog/datasheet/885342211010.pdf; Mounting Technology: SMT; Operating Temperature: -55 to +125degC; Published Date: May 2020; Packaging: Tape and Reel; Ceramic Type: X7R Class II; Capacitance: 2.2nF; Height: 2.5mm; Size: 1812
footprint WCAP-CSMH_1812_H2.5
pins: 1, 2